# EAGLE library part DP83848 (library parts)
PHYTER® - Industrial Temperature Single Port 10/100 Mb/s Ethernet Physical Layer Transceiver http://www.ti.com/product/dp83848i
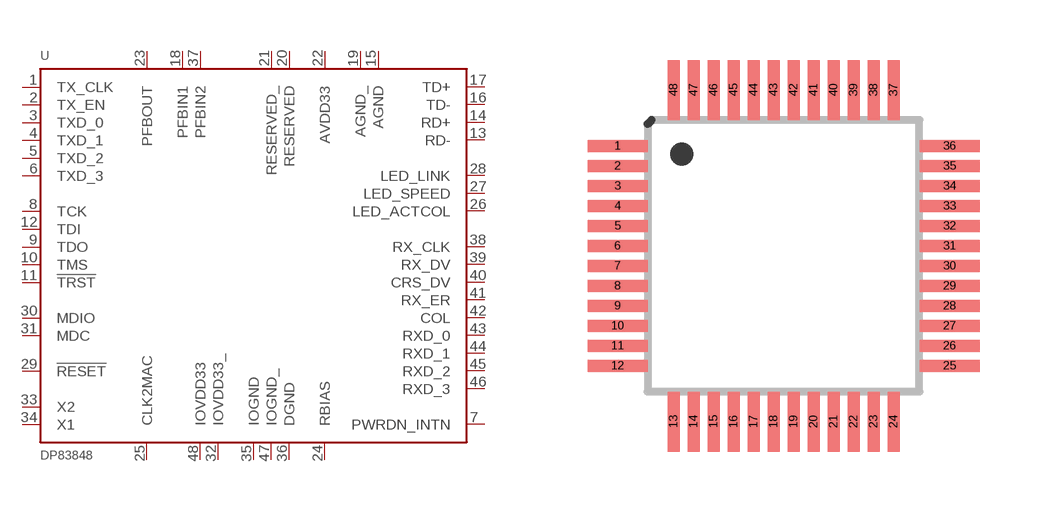
[diagram p3: symbol with the pads of LQFP48; footprint LQFP48]

Designator prefix U

## DP83848 (MPN: DP83848VYB), DP83848I (MPN: DP83848IVV; RS: 651-5766)  [LQFP48]
1  TX_CLK  out
2  TX_EN  in
3  TXD_0  in
4  TXD_1  in
5  TXD_2  in
6  TXD_3  in
7  PWRDN_INTN
8  TCK  in
9  TDO  out
10  TMS  in
11  !TRST  in
12  TDI  in
13  RD-
14  RD+
15  AGND  pwr
16  TD-
17  TD+
18  PFBIN1  in
19  AGND_  pwr
20  RESERVED  in
21  RESERVED_  in
22  AVDD33  pwr
23  PFBOUT  out
24  RBIAS
25  CLK2MAC  out
26  LED_ACTCOL  out
27  LED_SPEED  out
28  LED_LINK  out
29  !RESET  in
30  MDIO
31  MDC  in
32  IOVDD33_  pwr
33  X2  out
34  X1  in
35  IOGND  pwr
36  DGND  pwr
37  PFBIN2  in
38  RX_CLK  out
39  RX_DV  out
40  CRS_DV  out
41  RX_ER  out
42  COL  out
43  RXD_0  out
44  RXD_1  out
45  RXD_2  out
46  RXD_3  out
47  IOGND_  pwr
48  IOVDD33  pwr

## Footprint LQFP48 (pad centres in mm)
LQFP48 VXH48A Auto generated by make-symbol-device-package-bsdl.ulp Rev. 34 Source: http://www.national.com/ds/DP/DP83848VYB.pdf
smd 1.5 x 0.3: 1 -4.15,2.75; 2 -4.15,2.25; 3 -4.15,1.75; 4 -4.15,1.25; 5 -4.15,0.75; 6 -4.15,0.25; 7 -4.15,-0.25; 8 -4.15,-0.75; 9 -4.15,-1.25; 10 -4.15,-1.75; 11 -4.15,-2.25; 12 -4.15,-2.75; 25 4.15,-2.75; 26 4.15,-2.25; 27 4.15,-1.75; 28 4.15,-1.25; 29 4.15,-0.75; 30 4.15,-0.25; 31 4.15,0.25; 32 4.15,0.75; 33 4.15,1.25; 34 4.15,1.75; 35 4.15,2.25; 36 4.15,2.75
smd 0.3 x 1.5: 13 -2.75,-4.15; 14 -2.25,-4.15; 15 -1.75,-4.15; 16 -1.25,-4.15; 17 -0.75,-4.15; 18 -0.25,-4.15; 19 0.25,-4.15; 20 0.75,-4.15; 21 1.25,-4.15; 22 1.75,-4.15; 23 2.25,-4.15; 24 2.75,-4.15; 37 2.75,4.15; 38 2.25,4.15; 39 1.75,4.15; 40 1.25,4.15; 41 0.75,4.15; 42 0.25,4.15; 43 -0.25,4.15; 44 -0.75,4.15; 45 -1.25,4.15; 46 -1.75,4.15; 47 -2.25,4.15; 48 -2.75,4.15